# Altium footprint library CAMERON.PcbLib: 58 footprints (part 3 of 4)
Each footprint in its own frame and in the unit in brackets; x right, y up, seen from the top. Pads: shape width x height; smd on the part's side, far side on the other; paste and mask are expansions set on the pad; w line width, h text height; cw(c..) or ccw(c..) is an arc to the next point about the centre after c.
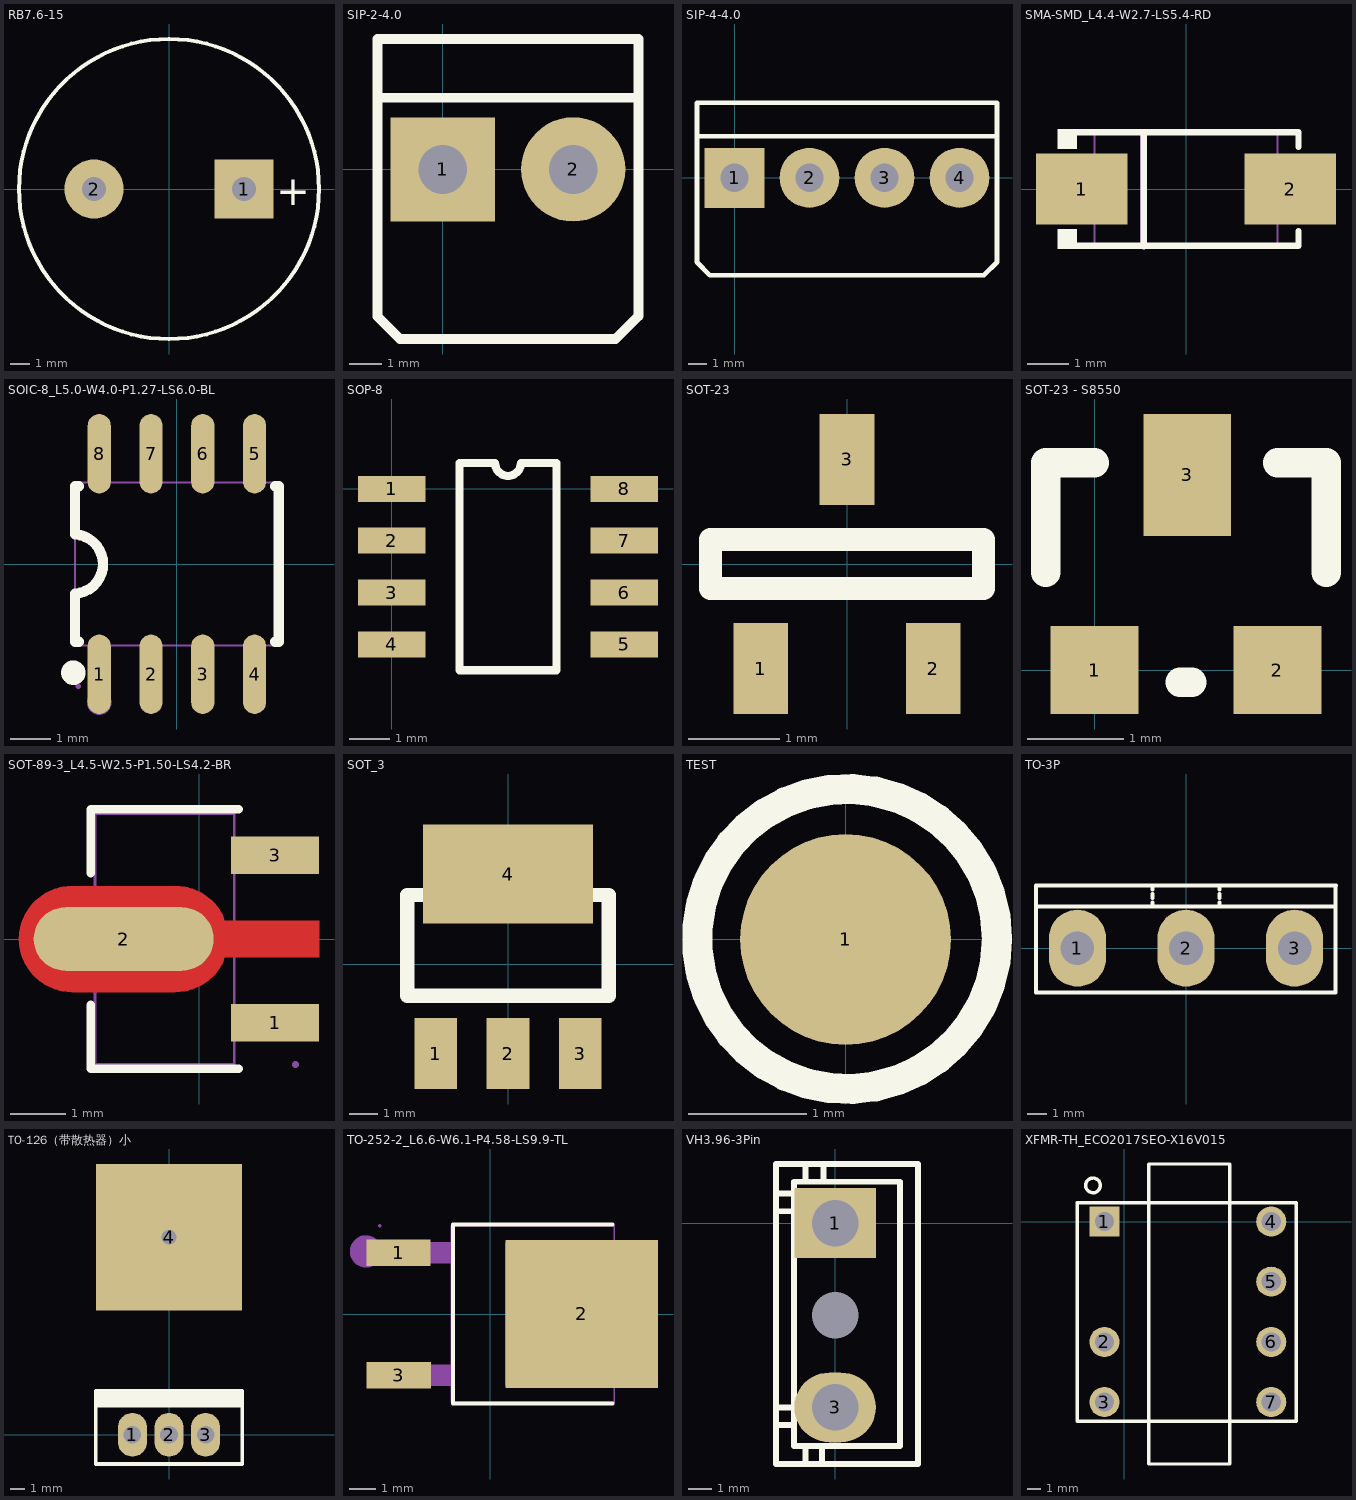
[diagram p2: the footprints below, top view; thin cyan lines are the x and y axes]

## RB7.6-15 [mm]
pads (2):
  rect 3x3 hole 1.2: 1(3.81,0)
  round 3 hole 1.2: 2(-3.81,0)
Top Overlay:
  circle w0.2: c0,0 r7.62
  text "+" at 5.436,-0.813 h1.5

## SIP-2-4.0 [mm]
pads (2):
  rect 3.2x3.2 hole 1.5: 1(0,0)
  round 3.2 hole 1.5: 2(4,0)
Top Overlay:
  lines w0.3: -2,2.2 6,2.2 ; -2,-4.51 -1.31,-5.2 -0.3,-5.2 4.3,-5.2 5.3,-5.2 6,-4.5 6,4 -2,4 -2,-4.5 -2,-4.51

## SIP-4-4.0 [mm]
pads (4):
  rect 3.2x3.2 hole 1.5: 1(0,0)
  round 3.2 hole 1.5: 2(4,0) 3(8,0) 4(12,0)
Top Overlay:
  lines w0.254: -2,2.21 14,2.21 ; -1.31,-5.2 13.3,-5.2 14,-4.5 14,4 -2,4 -2,-4.51 -1.31,-5.2 ; -1.31,-5.2 -1.31,-5.2 ; -2,2.2 -2,2.2

## SMA-SMD_L4.4-W2.7-LS5.4-RD [mm]
pads (2):
  rect 2.2x1.7 smd: 1(-2.5,0) 2(2.5,0)
Top Overlay:
  region: -2.625,-1.44 -2.625,-0.962 -3.082,-0.962 -3.082,-1.44
  region: -2.625,1.44 -2.625,0.962 -3.082,0.962 -3.082,1.44
  lines w0.152: -2.701,-1.364 2.701,-1.364 2.701,-1.013 ; -2.701,1.364 2.701,1.364 2.701,1.013 ; -1.015,-1.377 -1.015,1.35
Mechanical 6:
  region: -1.1,1.35 -0.95,1.35 -0.95,-1.4 -1.1,-1.4
  region: 2.142,-0.644 2.142,0.644 1.949,0.644 1.949,-0.644
  region: 2.432,-0.097 2.432,0.097 1.659,0.097 1.659,-0.097
  region: -2.432,-0.097 -2.432,0.097 -1.659,0.097 -1.659,-0.097
Mechanical 15:
  region: 1.5,-0.75 1.5,0.75 2.7,0.75 2.7,-0.75
  region: -2.7,-0.75 -2.7,0.75 -1.5,0.75 -1.5,-0.75
  region: -2.64,-1.35 -2.641,-1.326 -2.676,-1.293 -2.724,-1.292 -2.759,-1.326 -2.76,-1.35 -2.759,-1.374 -2.724,-1.407 -2.676,-1.408 -2.641,-1.374
  lines w0.051: -2.2,-1.35 2.2,-1.35 2.2,1.35 -2.2,1.35 -2.2,-1.35

## SOIC-8_L5.0-W4.0-P1.27-LS6.0-BL [mil]
pads (8):
  oval 22.38x76.78 smd: 1(-75,-106.5) 2(-25,-106.5) 3(25,-106.5) 4(75,-106.5) 5(75,106.5) 6(25,106.5) 7(-25,106.5) 8(-75,106.5)
Top Overlay:
  circle w11.81: c-100,-105 r5.91
  lines w10: -98.43,-28.61 ccw(c-99.99,0) -98.23,28.59 ; -98.42,-28.61 -98.42,-59.05 -98.42,-75 -94.83,-75 ; -98.42,28.59 -98.42,59.05 -98.42,75 -94.83,75 ; 94.83,-75 98.42,-75 98.42,-59.05 98.42,59.05 98.42,75 94.83,75
Mechanical 6:
  circle w11.81: c-75,-133.86 r5.91
Mechanical 15:
  region: -83.07,-118.11 -83.07,-85.24 -66.93,-85.24 -66.93,-118.11
  region: -83.07,-85.63 -83.07,-76.38 -66.93,-76.38 -66.93,-85.63
  region: -33.07,-118.11 -33.07,-85.24 -16.93,-85.24 -16.93,-118.11
  region: -33.07,-85.63 -33.07,-76.38 -16.93,-76.38 -16.93,-85.63
  region: 16.93,-118.11 16.93,-85.24 33.07,-85.24 33.07,-118.11
  region: 16.93,-85.63 16.93,-76.38 33.07,-76.38 33.07,-85.63
  region: 66.93,-118.11 66.93,-85.24 83.07,-85.24 83.07,-118.11
  region: 66.93,-85.63 66.93,-76.38 83.07,-76.38 83.07,-85.63
  region: -83.07,85.24 -83.07,118.11 -66.93,118.11 -66.93,85.24
  region: -83.07,76.38 -83.07,85.63 -66.93,85.63 -66.93,76.38
  region: -33.07,85.24 -33.07,118.11 -16.93,118.11 -16.93,85.24
  region: -33.07,76.38 -33.07,85.63 -16.93,85.63 -16.93,76.38
  region: 16.93,85.24 16.93,118.11 33.07,118.11 33.07,85.24
  region: 16.93,76.38 16.93,85.63 33.07,85.63 33.07,76.38
  region: 66.93,85.24 66.93,118.11 83.07,118.11 83.07,85.24
  region: 66.93,76.38 66.93,85.63 83.07,85.63 83.07,76.38
  region: -92.92,-118.11 -92.94,-117.15 -94.32,-115.8 -96.24,-115.8 -97.62,-117.15 -97.64,-118.11 -97.62,-119.07 -96.24,-120.42 -94.32,-120.42 -92.94,-119.07
  lines w2: -98.42,-78.74 98.42,-78.74 98.42,78.74 -98.42,78.74 -98.42,-78.74

## SOP-8 [mil]
pads (8):
  rect 65x25 smd: 1(0,0) 2(0,-50) 3(0,-100) 4(0,-150) 5(224.41,-150) 6(224.41,-100) 7(224.41,-50) 8(224.41,0)
Top Overlay:
  lines w7.87: 65.37,-175 65.37,25 99.7,25 ccw(c112.2,25) 124.7,25 159.04,25 159.04,-175 65.37,-175

## SOT-23 [mm]
height 1.1
pads (3):
  rect 0.6x1 smd: 1(-0.95,-1.15) 2(0.95,-1.15) 3(0,1.15)
Top Overlay:
  lines w0.254: -1.5,-0.27 -1.5,0.27 1.5,0.27 1.5,-0.27 -1.5,-0.27

## SOT-23 - S8550 [mil]
pads (3):
  rect 36x36 smd: 1(0,0) 2(75,0)
  rect 36x50 smd: 3(38,80)
Top Overlay:
  lines w12: -20,40 -20,85 0,85 ; 35,-5 40,-5 ; 75,85 95,85 95,40

## SOT-89-3_L4.5-W2.5-P1.50-LS4.2-BR [mm]
pads (3):
  rect 1.575x0.672 smd: 1(1.356,-1.5) 3(1.356,1.5)
  oval 3.226x1.14 smd: 2(-1.356,0)
Top Layer:
  region: -2.283,0.95 -0.429,0.95 -0.384,0.949 -0.34,0.946 -0.296,0.94 -0.252,0.933 -0.208,0.924 -0.165,0.912 -0.123,0.899 -0.081,0.884 -0.04,0.866 0,0.847 0.04,0.826 0.078,0.803 0.115,0.779 0.151,0.752 0.185,0.724 0.219,0.695 0.251,0.664 0.281,0.631 0.31,0.597 0.337,0.562 0.362,0.525 0.386,0.488 0.408,0.449 0.428,0.409 0.447,0.33 2.144,0.33 2.144,-0.33 0.447,-0.33 0.428,-0.409 0.408,-0.449 0.386,-0.488 0.362,-0.526 0.337,-0.562 0.31,-0.597 0.281,-0.631 0.251,-0.664 0.219,-0.695 0.185,-0.725 0.151,-0.753 0.115,-0.779 0.078,-0.804 0.04,-0.827 0,-0.848 -0.04,-0.867 -0.081,-0.884 -0.123,-0.899 -0.165,-0.913 -0.208,-0.924 -0.252,-0.934 -0.296,-0.941 -0.34,-0.946 -0.384,-0.949 -0.429,-0.95 -2.283,-0.95 -2.328,-0.949 -2.372,-0.946 -2.416,-0.941 -2.46,-0.934 -2.504,-0.924 -2.547,-0.913 -2.589,-0.899 -2.631,-0.884 -2.672,-0.867 -2.713,-0.848 -2.752,-0.827 -2.79,-0.804 -2.827,-0.779 -2.863,-0.753 -2.898,-0.725 -2.931,-0.695 -2.963,-0.664 -2.993,-0.631 -3.022,-0.597 -3.049,-0.562 -3.075,-0.526 -3.098,-0.488 -3.12,-0.449 -3.141,-0.409 -3.159,-0.369 -3.175,-0.327 -3.189,-0.285 -3.202,-0.242 -3.212,-0.199 -3.22,-0.155 -3.227,-0.111 -3.231,-0.067 -3.233,-0.022 -3.233,0.022 -3.231,0.067 -3.227,0.111 -3.22,0.155 -3.212,0.199 -3.202,0.242 -3.189,0.285 -3.175,0.327 -3.159,0.369 -3.141,0.409 -3.12,0.449 -3.098,0.488 -3.075,0.525 -3.049,0.562 -3.022,0.597 -2.993,0.631 -2.963,0.664 -2.931,0.695 -2.898,0.724 -2.863,0.752 -2.827,0.779 -2.79,0.803 -2.752,0.826 -2.713,0.847 -2.672,0.866 -2.631,0.884 -2.589,0.899 -2.547,0.912 -2.504,0.924 -2.46,0.933 -2.416,0.94 -2.372,0.946 -2.328,0.949
Top Overlay:
  lines w0.152: -1.95,-1.177 -1.95,-2.326 0.702,-2.326 ; -1.95,1.177 -1.95,2.326 0.702,2.326
Mechanical 6:
  circle w0.3: c1.715,-1.5 r0.15
Mechanical 15:
  region: 1.784,-2.25 1.784,-2.225 1.749,-2.19 1.699,-2.19 1.664,-2.225 1.664,-2.25 1.664,-2.275 1.699,-2.31 1.749,-2.31 1.784,-2.275
  region: 0.439,-0.26 1.724,-0.26 1.724,0.26 0.439,0.26 -0.136,0.863 -2,0.863 -2.471,0.288 -2.471,-0.287 -2,-0.862 -0.136,-0.862
  region: 0.624,-1.25 1.724,-1.25 1.724,-1.75 0.624,-1.75
  region: 0.624,1.75 1.724,1.75 1.724,1.25 0.624,1.25
  lines w0.051: -1.874,-2.25 -1.874,2.25 0.626,2.25 0.626,-2.25 -1.874,-2.25

## SOT_3 [mm]
pads (4):
  rect 1.5x2.5 smd: 1(-2.54,-3.151) 2(0,-3.151) 3(2.54,-3.151)
  rect 6x3.5 smd: 4(0,3.175)
Top Overlay:
  lines w0.508: -3.556,-1.119 3.556,-1.119 3.556,2.437 -3.556,2.437 -3.556,-1.119
Top Solder:
  rectangle: -3.048,1.397 3.048,4.989

## TEST [mil]
pads (1):
  round 70 smd: 1(0,0)
Top Overlay:
  circle w10: c0.46,0.16 r49.82

## TO-3P [mm]
pads (3):
  oval 2.9x3.9 hole 1.7: 1(-5.5,0) 2(0,0) 3(5.5,0)
Top Overlay:
  lines w0.2: -7.602,3.165 -7.602,2.107 -7.602,-2.24 7.582,-2.24 7.582,2.117 7.582,3.175 ; -7.6,3.175 7.6,3.175 ; -7.53,2.117 7.55,2.117 ; -1.693,2.117 -1.693,2.328 ; -1.693,2.54 -1.693,2.752 ; -1.693,2.963 -1.693,3.175 ; 1.693,2.117 1.693,2.328 ; 1.693,2.54 1.693,2.752 ; 1.693,2.963 1.693,3.175

## TO-126（带散热器）小 [mm]
pads (4):
  oval 2x3 hole 1.2: 1(-2.5,0) 2(0,0) 3(2.5,0)
  rect 10x10 hole 1: 4(0,13.513)
Top Overlay:
  lines w0.254: -5,2 5,2 ; -5,2.159 5,2.159 ; -5,2.286 5,2.286 ; -5,2.56 5,2.56 ; -5,2.794 5,2.794 ; -4.873,2.413 5,2.413 ; -5,-2 -5,3 5,3 5,-2 -5,-2

## TO-252-2_L6.6-W6.1-P4.58-LS9.9-TL [mm]
pads (3):
  rect 2.409x0.979 smd: 1(-3.424,2.29) 3(-3.423,-2.29)
  rect 5.711x5.548 smd: 2(3.424,0)
Top Overlay:
  lines w0.152: 4.584,-3.346 -1.383,-3.346 -1.383,3.346 4.584,3.346
Mechanical 6:
  circle w0.6: c-4.64,2.34 r0.3
Mechanical 15:
  region: -1.435,2.69 -1.435,1.89 -2.925,1.89 -2.925,2.69
  region: -1.435,-1.89 -1.435,-2.69 -2.925,-2.69 -2.925,-1.89
  region: -2.924,1.89 -4.124,1.89 -4.124,2.69 -2.924,2.69
  region: -2.923,-2.69 -4.124,-2.69 -4.124,-1.89 -2.923,-1.89
  region: 0.568,-2.667 0.568,2.668 5.245,2.668 5.778,2.134 5.778,-2.134 5.245,-2.667
  region: -4.064,3.3 -4.064,3.325 -4.099,3.36 -4.149,3.36 -4.184,3.325 -4.184,3.3 -4.184,3.275 -4.149,3.24 -4.099,3.24 -4.064,3.275
  lines w0.051: -1.45,-3.3 -1.45,3.3 4.65,3.3 4.65,-3.3 -1.45,-3.3

## VH3.96-3Pin [mm]
pads (3):
  rect 3.5x3 hole 2: 1(0,0)
  round 0 hole 2: 2(0,-3.96)
  oval 3.5x3 hole 2: 3(0,-7.92)
Top Overlay:
  lines w0.254: -2.54,-7.928 -1.778,-7.928 ; -2.54,0.508 -1.778,0.508 ; -2.54,1.27 -1.778,1.27 ; -2.53,-8.68 -1.768,-8.68 ; -1.275,-10.337 -1.275,-9.575 ; -1.27,1.778 -1.27,2.54 ; -0.575,-10.337 -0.575,-9.575 ; -0.508,1.778 -0.508,2.54 ; -2.54,-10.35 3.556,-10.35 3.556,2.54 0,2.54 -2.54,2.54 -2.54,-10.35 ; -1.778,-9.575 2.794,-9.575 2.794,1.778 -1.778,1.778 -1.778,-9.575

## XFMR-TH_ECO2017SEO-X16V015 [mm]
pads (7):
  rect 2.2x2.2 hole 1.4 paste-2539.97 mask+0.05: 1(-1.46,0)
  round 2.2 hole 1.4 paste-2539.97 mask+0.05: 2(-1.46,-8.8) 3(-1.46,-13.2) 4(10.74,0) 5(10.74,-4.394) 6(10.74,-8.8) 7(10.74,-13.2)
Top Overlay:
  circle w0.254: c-2.295,2.652 r0.539
  lines w0.254: -3.438,-14.618 12.562,-14.618 12.562,1.382 -3.438,1.382 -3.438,-14.618 ; 1.794,-17.732 7.7,-17.732 7.7,4.214 1.794,4.214 1.794,-17.732
Mechanical 15:
  drawing of 11 lines, arcs and shapes, not listed